# EAGLE library part SLG46881V (library GREENPAK)
GreenPAK6 SLG46880V Silego Technology www.silego.com Features • 12 State Asynchronous State Machine • State Configurable Logic • Programmable Logic • Programmable Mixed Signal Blocks • Computation Macrocell • Read Back Protection (Read Lock) • 2.5 V (±8%) to 5 V (±10%) Supply • Operating Temperature Range: -40°C to 85°C • RoHS Compliant / Halogen-Free • 32 Pin STQFN: 4 x 4 x 0.55 mm, 0.4 mm pitch
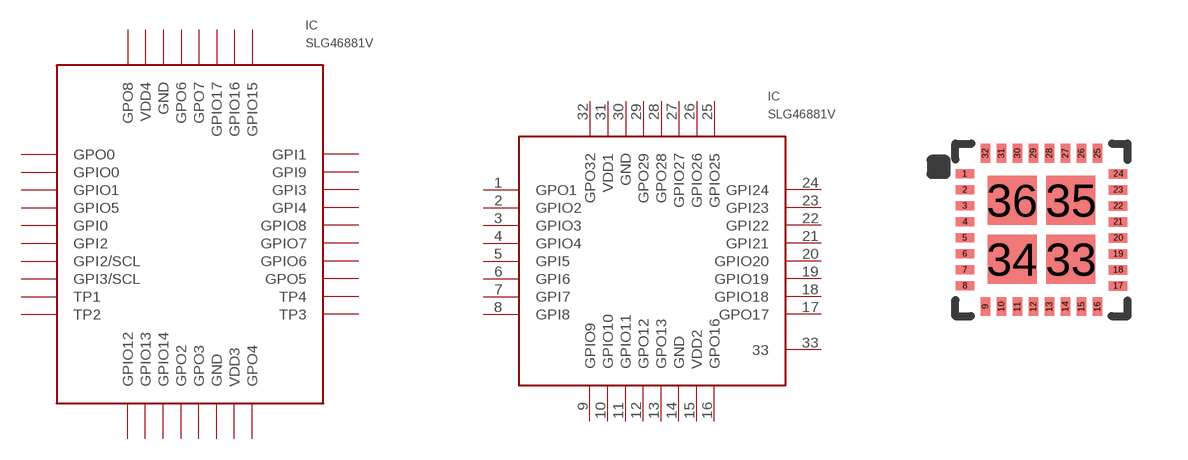
[diagram p49: symbol with the pads of STQFN-32-4.0X4.0_N; footprint STQFN-32-4.0X4.0_N]

Designator prefix IC

## SLG46881V  [STQFN-32-4.0X4.0_N]
1  GPO1  out
2  GPIO2
3  GPIO3
4  GPIO4
5  GPI5  in
6  GPI6  in
7  GPI7  in
8  GPI8  in
9  GPIO9
10  GPIO10
11  GPIO11
12  GPO12
13  GPO13
14  GND  pwr
15  VDD2  pwr
16  GPO16
17  GPO17  out
18  GPIO18
19  GPIO19
20  GPIO20
21  GPI21  in
22  GPI22  in
23  GPI23  in
24  GPI24  in
25  GPIO25
26  GPIO26
27  GPIO27
28  GPO28
29  GPO29
30  GND  pwr
31  VDD1  pwr
32  GPO32  out
33  33  nc
34  33  nc
35  33  nc
36  33  nc

## Footprint STQFN-32-4.0X4.0_N (pad centres in mm)
smd 0.465 x 0.23: 1 -1.917,1.401; 2 -1.917,1.001; 3 -1.917,0.601; 4 -1.917,0.201; 5 -1.917,-0.199; 6 -1.917,-0.599; 7 -1.917,-0.999; 8 -1.917,-1.399; 17 1.917,-1.4; 18 1.917,-1; 19 1.917,-0.6; 20 1.917,-0.2; 21 1.917,0.2; 22 1.917,0.6; 23 1.917,1; 24 1.917,1.4
smd 0.23 x 0.465: 9 -1.4,-1.917; 10 -1,-1.917; 11 -0.6,-1.917; 12 -0.2,-1.917; 13 0.2,-1.917; 14 0.6,-1.917; 15 1,-1.917; 16 1.4,-1.917; 25 1.4,1.918; 26 1,1.918; 27 0.6,1.918; 28 0.2,1.918; 29 -0.2,1.918; 30 -0.6,1.918; 31 -1,1.918; 32 -1.4,1.918
smd 1.225 x 1.225: 33 0.737,-0.738; 34 -0.737,-0.738; 35 0.737,0.737; 36 -0.737,0.738